# Altium schematic symbol library SolderStation.SchLib: 37 symbols
Pins are listed as number, name and electrical type; pins without a type are passive.

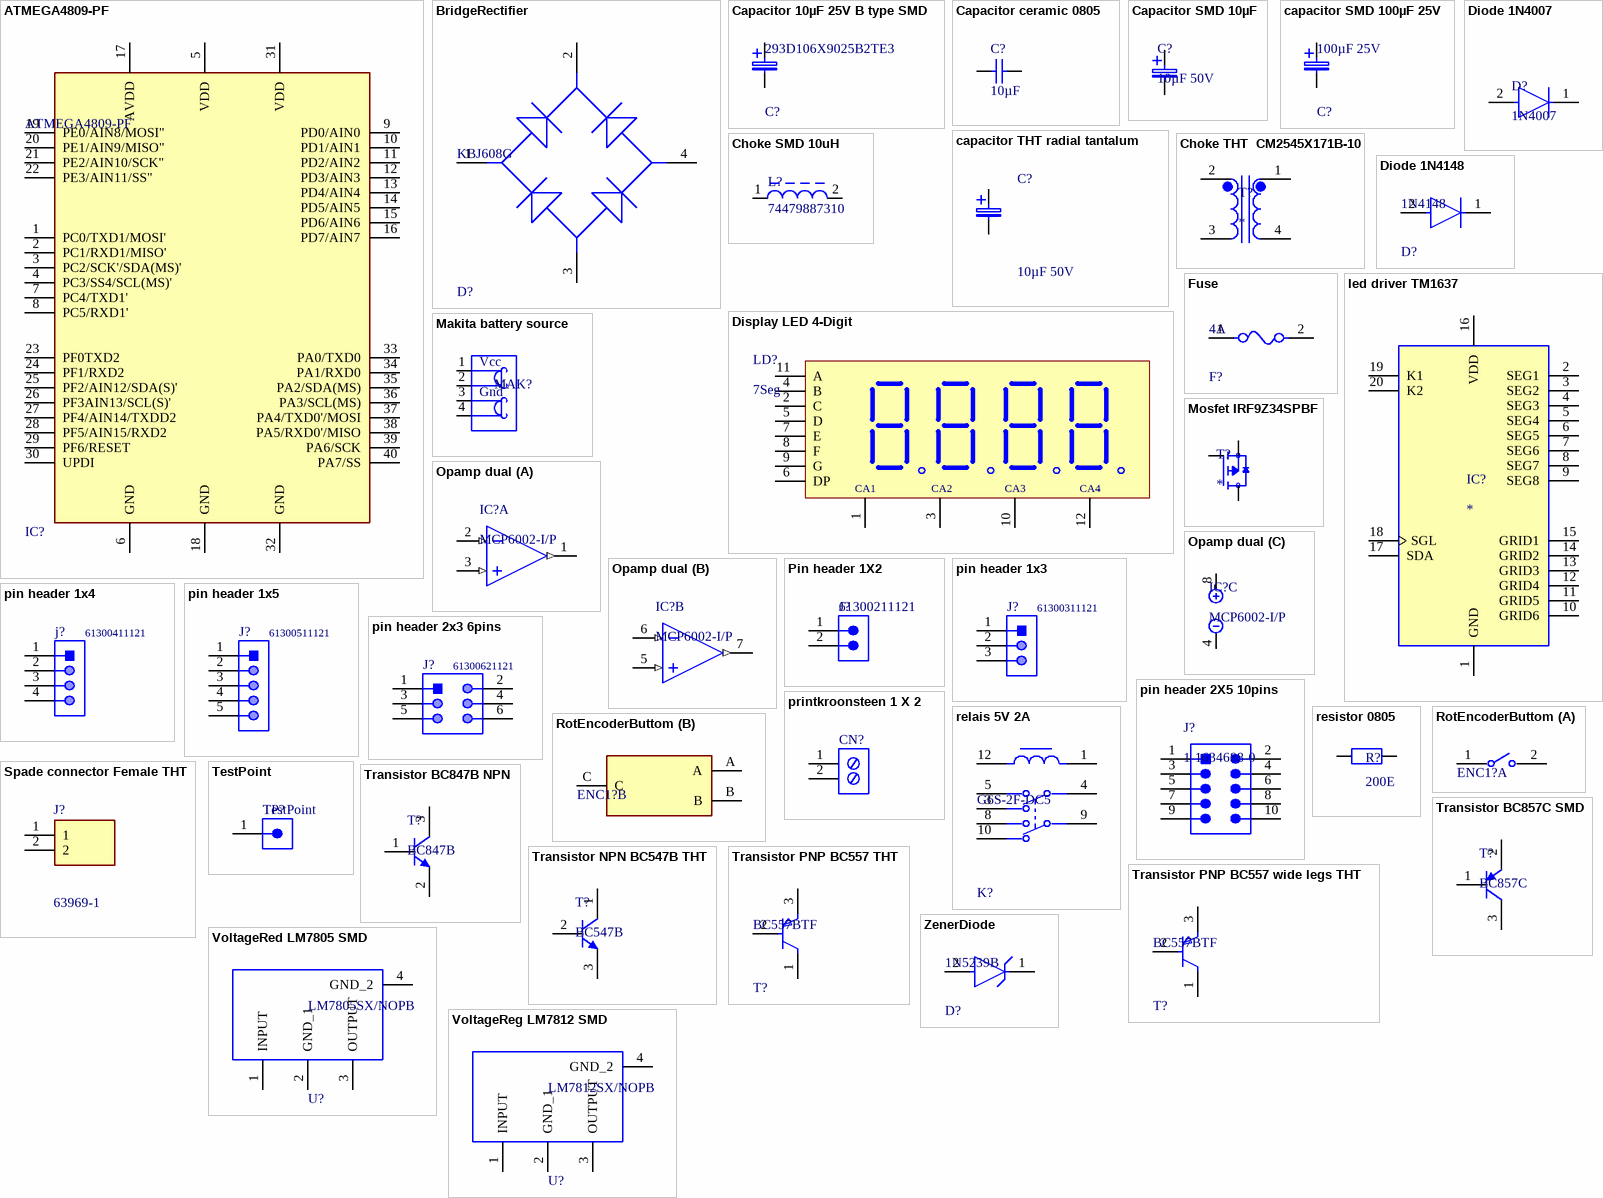
[diagram p0: symbols ATMEGA4809-PF to ZenerDiode]

## ATMEGA4809-PF
designator IC?
IC MCU 8BIT 48KB FLASH 40DIP; RoHS Compliant: Yes
footprint ATMEGA4809-PF (FP TH gebruikmaken van socket voor op PCB)
pins: 1 PC0/TXD1/MOSI', 2 PC1/RXD1/MISO', 3 PC2/SCK'/SDA(MS)', 4 PC3/SS4/SCL(MS)', 5 VDD (power), 6 GND (power), 7 PC4/TXD1', 8 PC5/RXD1', 9 PD0/AIN0, 10 PD1/AIN1, 11 PD2/AIN2, 12 PD3/AIN3, 13 PD4/AIN4, 14 PD5/AIN5, 15 PD6/AIN6, 16 PD7/AIN7, 17 AVDD (power), 18 GND (power), 19 PE0/AIN8/MOSI", 20 PE1/AIN9/MISO", 21 PE2/AIN10/SCK", 22 PE3/AIN11/SS", 23 PF0TXD2, 24 PF1/RXD2, 25 PF2/AIN12/SDA(S)', 26 PF3AIN13/SCL(S)', 27 PF4/AIN14/TXDD2, 28 PF5/AIN15/RXD2, 29 PF6/RESET, 30 UPDI, 31 VDD (power), 32 GND (power), 33 PA0/TXD0, 34 PA1/RXD0, 35 PA2/SDA(MS), 36 PA3/SCL(MS), 37 PA4/TXD0'/MOSI, 38 PA5/RXD0'/MISO, 39 PA6/SCK, 40 PA7/SS

## BridgeRectifier
designator D?, comment KBJ608G
BRIDGE RECT 1PHASE 800V 6A KBJ; Manufacturer: Diodes; Max Junction Temp: +150°C; Max Surge Forward Current: 170A; Peak Reverse Current: 5uA; Standoff Height: 3.3mm; Value: 80pF; Forward Current: 3A; Mouser Description: Bridge Rectifiers 6.0A 800V; Digikey Description: BRIDGE RECT 1PHASE 800V 6A KBJ; Max Repetitive Reverse Voltage: 800V; ComponentLink2Description: Datasheet; Manufacturer Part Number: KBJ608G; Device Class L1: Discrete Semiconductors; Octopart: https://octopart.com/kbj608g-diodes+inc.-13390835; Temperature Range Low: -65°C; Temperature: -65°C to +150°C; Automotive: No; ComponentLink2URL: https://www.diodes.com/assets/Datasheets/ds21207.pdf; RoHS: TRUE; Category: Diode; Lead Free: Yes; Footprint Url: https://www.diodes.com/assets/Package-Files/KBJ.pdf; Reverse Voltage: 800V; Device Class L2: Diodes; Package: KBJ; Device Class L3: Rectifier Diodes; Capacitance: 80pF; Height: 19mm; Temperature Range High: +150°C
footprint FP-KBJ-MFG
pins: 1 +, 2 1 ~, 3 2 ~, 4 -

## Capacitor 10µF 25V B type SMD
designator C?, comment 293D106X9025B2TE3
TANTALUM CAP 10000000 PF 10% CMP-02414-000016-1; Capacitance: 10uF; Dissipation Factor: 6%; ESR (Equivalent Series Resistance): 2.3R; Polarity: Polar; Voltage Rating: 25V; Voltage Rating (DC): 200kV; Leakage Current: 2.5uA; Ripple Current: 190mA; Case Code (Metric): 3528; Width: 1.9mm; Height: 2.1mm; Radiation Hardening: No; Dielectric Material: Tantalum; Weight: 0.002293oz; RoHS Compliant: Yes; Min Operating Temperature: -55°C; Max Operating Temperature: 125°C; Length: 3.5mm; Packaging: Tape and Reel; Lead Free: Lead Free; Series: 293D; Package Quantity: 2000; Case Code (Imperial): 1411; Tolerance: 10%; Termination: SMD/SMT; Depth: 2.8mm; Case/Package: Molded
footprint FP-293DB-MFG
pins: 1, 2

## Capacitor ceramic 0805
designator C?, comment 10µF
Manufacturer: Kemet; Part Number: C0402C104K4RACTU
footprint CAPC2012X88N
pins: 1, 2
1 alternate drawing of the same symbol

## Capacitor SMD 10µF
designator C?, comment 10µF 50V
Tantalum Capacitor, 10 uF, +/- 10%, 50 V, -55 to 125 degC, 2-Pin SMD (7343-43), RoHS, Tape and Reel CMP-2000-05556-1; Manufacturer: Vishay; Capacitance: 10000000pF; Product Height (mm): 4mm; Lead Spacing (nom): NotRequiredmm; Product Depth (mm): 4.3mm; Seal: NotRequired; Case Style: Molded; DELETED: Compliant; Voltage: 50VDC; Product Length (mm): 7.3mm; Polarity: Polar; ESR: 0.8ohm; DF: 6%; Rad Hardened: No; DCL: 5uA; Package Description: 2-Pin Surface Mount Device, Body 7.3 x 4.3 mm; Datasheet URL: http://www.vishay.com/docs/40002/293d.pdf; Operating Temp Range: -55Cto125C; Seated Plane Height: NotRequiredmm; Mounting Technology: SurfaceMount; Insulation: NotRequired; Failure Rate: NotRequired; Construction: SMTChip; Packaging: TapeandReel; Mounting Style: SurfaceMount; Tolerance (+ or -): 10%; Product Diameter (mm): NotRequiredmm; Length W/Weld (max): NotRequiredmm; Length W/Weld: NotRequiredmm; Case Code: E; Datasheet Version: 08/2016; Package Reference: 293D-E; Package / Case: 7343-43; Manufacturer URL: http://www.vishay.com/; Wire Form: NotRequired
footprint VISH-293D-E_L (Molded Capacitor, 2-Leads, Body 7.6x4.6mm, IPC High Density)
pins: 1, 2

## capacitor SMD 100µF 25V
designator C?, comment 100µF 25V
CAP TANT 100UF 10% 25V 2917CMP-03017-000022-1495X107K025ATE150; Life (Hours): 2000Hour; ESR (Equivalent Series Resistance): 150mR; Polarity: Polar; Packaging: Cut Tape; Case Code (Imperial): 2917; Mount: Surface Mount; Voltage Rating: 25V; Package Quantity: 500; Max Operating Temperature: 125°C; RoHS Compliant: Yes; REACH SVHC: No SVHC; Width: 0.169inch; Case/Package: Molded; Depth: 4.3mm; Capacitance: 100uF; Length: 7.3mm; Features: General Purpose; Height: 4mm; Case Code (Metric): 7343; Radiation Hardening: No; Tolerance: 10%; Lead Free: Lead Free; Min Operating Temperature: -55°C; Dissipation Factor: 10%; Height - Seated (Max): 0.169inch; Voltage Rating (DC): 25V
footprint FP-T495X107K025ATE150-MFG
pins: 1, 2

## capacitor THT radial tantalum
designator C?, comment 10µF 50V
Tantalum Capacitors - Solid Leaded 50V 10uF 20% ESR=1.6 Ohm TAP106M050BRW; Manufacturer_Name: Kyocera AVX; Geometry.Height: 15.5mm; Mouser Part Number: 581-TAP106M050BRW; Mouser Price/Stock: https://www.mouser.co.uk/ProductDetail/AVX/TAP106M050BRW?qs=GjEaAqXp9rZGx11KfVU76g%3D%3D; Manufacturer_Part_Number: TAP106M050BRW; Datasheet Link: https://www.mouser.be/datasheet/2/40/tap-776819.pdf
footprint TAP106M050BRW
pins: 1, 2

## Choke SMD 10uH
designator L?, comment 74479887310
Power Multilayer Inductor WE-PMI, L = 10.00 µH CMP-0227-00001-1; Inductance: 10.00 ÂµH; ComponentLink2Description: Datasheet; PackageDescription: Chip Inductor, 2-Leads, Body 2.5 x 2.0 mm; PackageReference: SMD-1008; ComponentLink1URL: http://www.we-online.com; ComponentLink2URL: http://www.we-online.de/katalog/media/pdf/74479887310.pdf; ComponentLink1Description: Manufacturer Link; PackageVersion: 2008; DatasheetVersion: ver 3, Aug-2009
footprint SMD-1008 (Chip Inductor, 2-Leads, Body 2.5 x 2.0 mm)
pins: 1, 2

## Choke THT  CM2545X171B-10
designator T?
2 Line Common Mode Choke Through Hole 170 Ohms @ 100 MHz 10A DCR 10mOhm CM2545X171B-10 smoorspoel; MF: Laird; Value: *; Purchase-URL: https://pricing.snapeda.com/search/part/CM2545X171B-10/?ref=eda; Price: None; Package: Vertical-4 Laird; SnapEDA_Link: https://www.snapeda.com/parts/CM2545X171B-10/Laird/view-part/?ref=snap; Availability: In Stock; Check_prices: https://www.snapeda.com/parts/CM2545X171B-10/Laird/view-part/?ref=eda; MP: CM2545X171B-10
footprint XFMR_CM2545X171B-10
pins: 1, 2, 3, 4

## Diode 1N4007
designator D?, comment 1N4007
DIODE 1N4007 1A 1000V; Manufacturer: On Semiconductor; IO(rec) Max (A): 1; IFSM Max (A): 30; Packing: Bulk Bag; Type: Standard Recovery; VRRM Max (V): 1000; ComponentLink3URL: http://www.onsemi.cn/pub_link/Collateral/59-10.PDF; PackageVersion: Rev. U, 02/2005; PackageDescription: 2-Pin, Axial Lead, Diameter 2.35 mm; PackageReference: AXIAL_LEAD-2-59-10; RoHS: TRUE; PartNumber: 1N4007; DatasheetVersion: Rev. 13; ComponentLink3Description: Package Specification; ComponentLink1Description: Manufacturer URL; ComponentLink2URL: http://www.onsemi.com/pub_link/Collateral/1N4001-D.PDF; ComponentLink1URL: http://www.onsemi.com/; ComponentLink2Description: Datasheet; Mounting Technology: Through Hole
footprint DIODE 1N4007 ONSC-AXIAL_LEAD-2-59-10_P (AXIAL, 2-Leads, Diameter 2.35mm)
pins: 1 C, 2 A

## Diode 1N4148
designator D?, comment 1N4148
DIODE GEN PURP 100V 200MA DO35; Forward Voltage: 1V; Max Power Dissipation: 500mW; Max Reverse Current: 5uA; Forward Current: 300mA; Current: 4A; Reverse Recovery Time: 4ns; Element Configuration: Single; Outside Diameter: 1.85mm; Capacitance: 4pF; Polarity: Standard; Max Forward Surge Current (Ifsm): 1A; Reverse Voltage: 100V; Output Current: 200mA; Average Rectified Current: 200mA; Diameter: 1.91mm; Max Repetitive Reverse Voltage (Vrrm): 100V; Current Rating: 200mA; Case/Package: DO-35; Lead Free: Lead Free; Number of Pins: 2; Recovery Time: 4ns; Packaging: Bulk; Contact Plating: Tin; Voltage: 100V; Mount: Through Hole; Max Surge Current: 4A; Package Quantity: 2000; Width: 1.91mm; Max Reverse Voltage (DC): 100V; Length: 4.56mm; Radiation Hardening: No; Power Dissipation: 500mW; Voltage Rating (DC): 100V; Peak Non-Repetitive Surge Current: 4A; REACH SVHC: No SVHC; Height: 4.56mm; Max Operating Temperature: 175°C; Series: -; Weight: 0.01lb; Min Operating Temperature: -65°C
footprint FP-017AG-MFG
pins: 1 C, 2 A

## Display LED 4-Digit
designator LD?, comment 7Seg
4-Digit LED Display TME KW4-801AVB
footprint KW4-801AVB/KW4-801CVB (7_segent display)
pins: 1 CA1, 2 C, 3 13, 4 B, 5 D, 6 DP, 7 E, 8 F, 9 G, 10 14, 11 A, 12 15
text: CA2; CA3; CA4

## Fuse
designator F?, comment 4A
FUSE BRD MNT 4A 125VAC/VDC 2SMDCMP-08605-000003-1; Manufacturer Part Number: 0154004.DR; Manufacturer: Littelfuse; Fuse Blow Speed: Fast; Max Fuse Ac Voltage: 125V; Lead Free: Yes; Device Class L3: unset; Device Class L2: Fuses; Package: 0154; ComponentLink2Description: Datasheet; Temperature Range Low: -55°C; Temperature Range High: +125°C; Device Class L1: Circuit Protection; Height: 3.81mm; Temperature: -55°C to +125°C; Mouser Description: Surface Mount Fuses Fuseblock w/ fuse 4A OMNI BLOK 154; Automotive: No; Digikey Description: FUSE BRD MNT 4A 125VAC/VDC 2SMD; RoHS: TRUE; Category: Fuse; Fuse Current: 4A; Max Fuse Dc Voltage: 125V; ComponentLink2URL: https://www.littelfuse.com/~/media/electronics/datasheets/fuses/littelfuse_fuse_154_154t_154l_154tl_datasheet.pdf.pdf; Octopart: https://octopart.com/0154004.dr-littelfuse-565861
footprint FP-0154-MFG
pins: 1, 2

## led driver TM1637
designator IC?
LED Drive Control Special Circuit; MF: Titan Micro Electronics; MP: TM1637; Package: Package; Availability: Not in stock; SnapEDA_Link: https://www.snapeda.com/parts/TM1637/Titan+Micro+Electronics/view-part/?ref=snap; Check_prices: https://www.snapeda.com/parts/TM1637/Titan+Micro+Electronics/view-part/?ref=eda; Value: *; Price: None
footprint N-20 (DIP, 20-Leads, Row Spacing 7.62mm, Pitch 2.54mm, Body 25.9x6.6mm)
pins: 1 GND (power), 2 SEG1, 3 SEG2, 4 SEG3, 5 SEG4, 6 SEG5, 7 SEG6, 8 SEG7, 9 SEG8, 10 GRID6, 11 GRID5, 12 GRID4, 13 GRID3, 14 GRID2, 15 GRID1, 16 VDD (power), 17 SDA, 18 SGL, 19 K1, 20 K2

## Makita battery source
designator MAK?
complete set-up for bettery makita terminal p/n 644808-8
footprint makita foodprint female spade for PCD (foodprint of 2 spades used for makita terminal)
pins: 1, 2, 3, 4
text: Vcc; Gnd

## Mosfet IRF9Z34SPBF
designator T?
P-Channel 60V 18A _Tc_ 3.7W _Ta_, 88W _Tc_ Surface Mount D2PAK IRF9Z34SPBF; MF: Vishay; SnapEDA_Link: https://www.snapeda.com/parts/IRF9Z34SPBF/Vishay%20Siliconix/view-part/390212/?ref=snap; Price: None; MP: IRF9Z34SPBF; Value: *; Availability: Unavailable; Package: D2PAK Vishay
footprint TO254P1521X483-4N
pins: 1 G, 3 S, 4 D

## Opamp dual
designator IC?, comment MCP6002-I/P
Dual opamp CMP-0187-00119-3; Max Frequency: 1kHz; Operating Supply Current: 100uA; Amplifier Type: GENERAL PURPOSE; Number of Channels: 2; Power Supply Rejection Ratio (PSRR): 86dB; Max Input Voltage: 6V; Bandwidth: 1MHz; Voltage Gain: 112dB; Input Bias Current: 1pA; Slew Rate-Nom: 0.6V/µs; Output Current: 23mA; Input Offset Voltage-Max: 4.5mV; Common Mode Rejection Ratio: 60dB; Min Input Voltage: 1.8V; Operating Supply Voltage: 5.5V; Height: 0.195inch; Number of Circuits: 2; REACH SVHC: No SVHC; Max Supply Voltage: 6V; Supply Current: 100uA; Gain Bandwidth Product: 1MHz; Radiation Hardening: No; Mount: Through Hole; Length: 0.4inch; Number of Pins: 8; Min Operating Temperature: -40°C; Case/Package: PDIP; Number of Amplifiers: 2; RoHS Compliant: Yes; Lead Free: Lead Free; Number of Elements: 2; Technology: CMOS; Width: 0.28inch; Slew Rate: 0.6V/µs; Packaging: Rail/Tube; Output Current per Channel: 23mA; Max Operating Temperature: 85°C; Nominal Supply Current: 100uA; Min Supply Voltage: 1.8V; Input Offset Voltage (Vos): 4.5mV; Unity Gain Bandwidth Product: 1MHz; Package Quantity: 60
footprint PDIP300-P8 (8-Pin Plastic Dual In-Line Package (PDIP))
part A pins: 1 VOUTA (out), 2 VINA- (in), 3 VINA+ (in)
part B pins: 5 VINB+ (in), 6 VINB- (in), 7 VOUTB (out)
part C pins: 4, 8

## Pin header 1X2
designator J?, comment 61300211121
THT Vertical Pin Header WR-PHD, Pitch 2.54 mm, Single Row, 2 pins; NexarPartId: 20081794; Operating Supply Voltage: 250V; Current Rating: 3A; Gender: Male; Number of Contacts: 2; Pitch: 2.54mm; Connector Type: Male Pin; Contact Resistance: 20mΩ; Contact Plating: Gold; Contact Material: Copper; Number of Pins: 2; Min Operating Temperature: -40°C; Packaging: Bulk; Lead Pitch: 2.54mm; Mount: Through Hole; Orientation: Vertical; RoHS: Compliant; REACH SVHC: No SVHC; Height: 8.94mm; Termination: Through Hole; Number of Positions: 2; Contact Mating Length: 5.9944mm; Color: Black; Contact Gender: Male; Number of Rows: 1; Housing Material: PBT; Lead Free: Lead Free; Voltage Rating: 250V; Max Operating Temperature: 125°C
footprint 61300211121 (Pin Header, pitch 2.54 mm, THT, Vertical, single row, 2p)
pins: 1, 2

## pin header 1x3
designator J?, comment 61300311121
THT Vertical Pin Header WR-PHD, Pitch 2.54 mm, Single Row, 3 pins; Manufacturer: Wurth Elektronik; Withstanding Voltage: 500VAC; Working Voltage: 250VAC; Rated Current: 3A; Pitch: 2.54mm; Pin Number: 3; Gender: Male; Contact Resistance: 20mOhm; Package Reference: 61300311121; Manufacturer URL: http://www.we-online.de; Datasheet URL: https://katalog.we-online.de/em/datasheet/6130xx11121.pdf; Operating Temperature: -40to105degC; Part Number: 61300311121; Orientation: Vertical; Packaging: Bag; Row Number: Single; Mounting Technology: THT; Publisher: WurthElektronik
footprint pin header 1x3 (Pin Header, pitch 2.54 mm, THT, Vertical, single row, 3p)
pins: 1, 2, 3

## pin header 1x4
designator j?, comment 61300411121
THT Vertical Pin Header WR-PHD, Pitch 2.54 mm, Single Row, 4 pins; Manufacturer: Wurth Elektronik; Withstanding Voltage: 500VAC; Rated Current: 3A; Working Voltage: 250VAC; Pin Number: 4; Gender: Male; Contact Resistance: 20mOhm; Pitch: 2.54mm; Manufacturer URL: http://www.we-online.de; Operating Temperature: -40to105degC; Packaging: Bag; Mounting Technology: THT; Package Reference: 61300411121; Datasheet URL: https://katalog.we-online.de/em/datasheet/6130xx11121.pdf; Publisher: WurthElektronik; Part Number: 61300411121; Row Number: Single; Orientation: Vertical
footprint pin header 1x4 (Pin Header, pitch 2.54 mm, THT, Vertical, single row, 4p)
pins: 1, 2, 3, 4

## pin header 1x5
designator J?, comment 61300511121
THT Vertical Pin Header WR-PHD, Pitch 2.54 mm, Single Row, 5 pins; Manufacturer: Wurth Elektronik; Pin Number: 5; Contact Resistance: 20mOhm; Working Voltage: 250VAC; Pitch: 2.54mm; Withstanding Voltage: 500VAC; Rated Current: 3A; Gender: Male; Datasheet URL: https://katalog.we-online.de/em/datasheet/6130xx11121.pdf; Orientation: Vertical; Mounting Technology: THT; Row Number: Single; Package Reference: 61300511121; Publisher: WurthElektronik; Part Number: 61300511121; Packaging: Bag; Manufacturer URL: http://www.we-online.de; Operating Temperature: -40to105degC
footprint pin header 1x5 (Pin Header, pitch 2.54 mm, THT, Vertical, single row, 5p)
pins: 1, 2, 3, 4, 5

## pin header 2x3 6pins
designator J?, comment 61300621121
THT Vertical Pin Header WR-PHD, Pitch 2.54 mm, Dual Row, 6 pins; Manufacturer: Wurth Elektronik; Contact Resistance: 20mOhm; Withstanding Voltage: 500VAC; Pin Number: 6; Gender: Male; Pitch: 2.54mm; Working Voltage: 250VAC; Rated Current: 3A; Packaging: Bag; Row Number: Dual; Manufacturer URL: http://www.we-online.de; Part Number: 61300621121; Operating Temperature: -40to105degC; Mounting Technology: THT; Package Reference: 61300621121; Datasheet URL: https://katalog.we-online.de/em/datasheet/6130xx21121.pdf; Orientation: Vertical; Publisher: WurthElektronik
footprint pin header 2x6 (Pin Header, pitch 2.54 mm, THT, Vertical, dual row, 6p)
pins: 1, 2, 3, 4, 5, 6

## pin header 2X5 10pins
designator J?, comment 1-1634688-0
CMP-2000-05854-1 Male Header, Pitch 2.54 mm, 2 x 5 Postion, Height 9.15 mm, Tail Length 3.2 mm, -40 to 105 degC, RoHS, Bulk; Manufacturer: TE Connectivity; No. of Rows: 2; SVHC: ToBeAdvised; Package Version: Rev. C2, 02/2011; No. of Contacts: 10Contacts; Pitch: 2.54mm; No. of Positions: 10; Contact Termination Type: ThroughHole; Package Description: 10-Pin Connector, Body 20.35 x 8.7 mm, Pitch 2.54 mm; Orientation: Straight; Gender: Header; Mounting Technology: ThroughHole; Product Range: -; PartNumber: 1-1634688-0; Datasheet Version: Rev. C2, 02/2011; Contact Material: Brass; Package URL: https://datasheet.ciiva.com/6831/eng-cd-1634688-c2-6831201.pdf; Package Reference: 1-1634688-0; Pitch Spacing: 2.54mm; Contact Plating: GoldPlatedContacts; Manufacturer URL: http://www.te.com/; Datasheet URL: https://datasheet.ciiva.com/6831/eng-cd-1634688-c2-6831201.pdf
footprint TECO-1-1634688-0-10_V (10-Pin Connector, Body 20.35x8.7mm, Pitch 2.54mm)
pins: 1, 2, 3, 4, 5, 6, 7, 8, 9, 10

## printkroonsteen 1 X 2
designator CN?, comment Printkroonsteen 2 POL  (value not drawn)
Printkroonsteen 2 PO L1716020000; Manufacturer_Name: Weidmuller; Datasheet Link: https://catalog.weidmueller.com/catalog/Start.do?ObjectID=1716020000&_ga=2.21797499.1716783809.1613378202-511725545.1613378202; Manufacturer_Part_Number: 1716020000; Mouser Part Number: 470-1716020000; Mouser Price/Stock: https://www.mouser.co.uk/ProductDetail/Weidmuller/1716020000?qs=WJDKaGZ8K%252B7GSEFQgvMjVA%3D%3D
footprint Printkroonsteen 2pin (printkroonsteen 2pin 1716020000)
pins: 1, 2

## relais 5V 2A
designator K?, comment G6S-2F-DC5
RELAY TELECOM DPDT 2A 5V DCCMP-08823-000012-1; Manufacturer: Omron; Coil Resistance: 178Ω; Coil Current: 28.1mA; Standoff Height: 0.35mm; Coil Power: 140mW; Coil Type: Non-Latching; Number Of Contacts: 2; RoHS: TRUE; Device Class L3: Signal Relays; Ambient Temperature Range Low: -40°C; Switching Current: 2A; Device Class L1: Electromechanical; Lead Free: Yes; Category: Relay; Digikey Description: RELAY TELECOM DPDT 2A 5VDC; Height: 9.4mm; Temperature: -40°C to +85°C; Throw Configuration: DPDT; Coil Voltage: 5V; Octopart: https://octopart.com/g6s-2f-dc5-omron-85236; Package: G6S-2F-DC5; Temperature Range High: +85°C; Automotive: No; Current Rating: 2A; Manufacturer Part Number: G6S-2F-DC5; Mouser Description: Electromechanical Relay 5VDC 178Ohm 2A DPDT (14.8x9.2x9.2)mm SMD Signal Relay; Temperature Range Low: -40°C; Device Class L2: Relays; Ambient Temperature Range High: +85°C; ComponentLink2URL: https://omronfs.omron.com/en_US/ecb/products/pdf/en-g6s.pdf; ComponentLink2Description: Datasheet
footprint FP-G6S-2F-DC5-MFG
pins: 1, 3, 4, 5, 8, 9, 10, 12

## resistor 0805
designator R?, comment 200E
Manufacturer: Vishay Dale; Part Number: CRCW08050000Z0EA
footprint RESC2012X50N
pins: 1, 2
1 alternate drawing of the same symbol

## RotEncoderButtom
designator ENC1?, comment PEC11R-4220F-S0012  (value not drawn)
ROTARY ENCODER MECHANICAL 12PPR PEC11R-4220F-S0012; Built in Switch: Yes; Number of Channels: 2; Output Type: Quadrature; Hole Diameter: 7mm; Pulses per Revolution: 12; Termination: PC Pin; Package Quantity: 150; RoHS Compliant: Yes; Mount: Through Hole; Width: 12.5mm; Radiation Hardening: No; Number of Pins: 5; REACH SVHC: No SVHC; Type: Mechanical; Packaging: Bulk; Min Operating Temperature: -30°C; Encoder Type: Mechanical; Height: 13.4mm; Length: 26.5mm; Orientation: Vertical; Max Operating Temperature: 70°C; Series: PEC11R; Detent: Yes
footprint PEC11R_4220F_S0012
part A pins: 1, 2
part B pins: A, B, C

## Spade connector Female THT
designator J?, comment 63969-1
FASTON 205/250 PCB MOUNTED TPBR; Manufacturer_Name: TE Connectivity; Geometry.Height: 12mm; Mouser Part Number: 571-63969-1; Mouser Price/Stock: https://www.mouser.co.uk/ProductDetail/TE-Connectivity-AMP/63969-1?qs=zg2i2nQPgi6Wuw9j7xPRqQ%3D%3D; Manufacturer_Part_Number: 63969-1; Datasheet Link: http://www.te.com/commerce/DocumentDelivery/DDEController?Action=showdoc&DocId=Customer+Drawing%7F63969%7FD%7Fpdf%7FEnglish%7FENG_CD_63969_D.pdf%7F63969-1
footprint 639691 female spade connecter (TE Connectivity teminal female THT PCB)
pins: 1, 2

## TestPoint
designator TP?
NexarPartId: 32855518; Operating Supply Voltage: 250V; Connector Type: Male Pin; Contact Resistance: 20mΩ; Number of Contacts: 1; Gender: Male; Current Rating: 3A; Contact Mating Length: 5.9944mm; Number of Pins: 1; Lead Pitch: 2.54mm; Contact Plating: Gold; RoHS: Compliant; Termination: Solder; Mount: Through Hole; Number of Rows: 1; Orientation: Vertical; Contact Material: Copper; Packaging: Bulk; REACH SVHC: Unknown; Number of Positions: 1; Color: Black
footprint 61300111121 (Pin Header, pitch 2.54 mm, THT, Vertical, single row, 1p)
pins: 1

## Transistor BC847B NPN
designator T?, comment BC847B
NPN Silicon AF Transistor, 45 V VCEO, 100 mA IC, SOT23, Reel, Green CMP-1177-00042-1; Manufacturer: Infineon; VEBO (max): 6Â V; ICBO (max): 15Â nA; VCBO (max): 50Â V; IBM (max): 200Â mA; Green: TRUE; Ptot (max): 330Â mW; fT (typ): 250Â MHz; IC (max): 100Â mA; VCEO (max): 45Â V; PackageDescription: 3-Pin Small Outline Transistor Package, 1.3 x 2.9 mm Body, 0.95 mm Pitch; ComponentLink3URL: http://www.infineon.com/dgdl/SOT23-Package_Overview.pdf?folderId=db3a30431936bc4b0119532290053c66&fileId=db3a30431936bc4b0119533468123c85; PackageVersion: Apr-08; Packing: Reel; ComponentLink3Description: Package Specification; ComponentLink2URL: http://www.infineon.com/dgdl/bc847series_bc848series_bc849series_bc850series.pdf?folderId=db3a304314dca389011541d30fa21656&fileId=db3a304314dca389011541d4630a1657; ComponentLink1URL: http://www.infineon.com/; ComponentLink2Description: Datasheet; Polarity: NPN; Mounting Technology: Surface Mount; PackageReference: SOT23; ICM (max): 200Â mA; ComponentLink1Description: Manufacturer URL; PartNumber: BC847B
footprint INF-SOT23_L (SOT23, 3-Leads, Body 2.9x1.3 mm, Pitch 0.95 mm, IPC High Density)
pins: 1 B, 2 E, 3 C

## Transistor BC857C SMD
designator T?, comment BC857C
PNP Silicon AF Transistor, 45 V VCEO, 100 mA IC, SOT23, Reel, Green CMP-1177-00039-1; Manufacturer: Infineon; VCBO (max): 50Â V; fT (typ): 250Â MHz; ICBO (max): 15Â nA; IC (max): 100Â mA; Green: TRUE; IBM (max): 200Â mA; VEBO (max): 5Â V; VCEO (max): 45Â V; Ptot (max): 330Â mW; PackageDescription: 3-Pin Small Outline Transistor Package, 1.3 x 2.9 mm Body, 0.95 mm Pitch; ComponentLink2Description: Datasheet; PackageReference: SOT23; ComponentLink3Description: Package Specification; ComponentLink1URL: http://www.infineon.com/; ComponentLink1Description: Manufacturer URL; Mounting Technology: Surface Mount; PackageVersion: Apr-08; ComponentLink3URL: http://www.infineon.com/dgdl/SOT23-Package_Overview.pdf?folderId=db3a30431936bc4b0119532290053c66&fileId=db3a30431936bc4b0119533468123c85; ComponentLink2URL: http://www.infineon.com/dgdl/bc857series_bc858series_bc859series_bc860series.pdf?folderId=db3a304314dca389011541d30fa21656&fileId=db3a304314dca389011541da0e3a1661; Polarity: PNP; ICM (max): 200Â mA; PartNumber: BC857C; Packing: Reel
footprint INF-SOT23_L (SOT23, 3-Leads, Body 2.9x1.3 mm, Pitch 0.95 mm, IPC High Density)
pins: 1 B, 2 E, 3 C

## Transistor NPN BC547B THT
designator T?, comment BC547B
Amplifier Transistor, NPN Silicon, 3-Pin TO-92, Bulk Box CMP-1048-01467-1; Manufacturer: On Semiconductor; IC Continuous (A): 0.1; fT Min (MHz): 150; DatasheetVersion: Rev. 7; ComponentLink1URL: http://www.onsemi.com/; Polarity: NPN; RoHS: FALSE; ComponentLink1Description: Manufacturer URL; Packing: Bulk Box; PackageDescription: 3-Pin Transistor Outline, Body 4.825 x 3.685 mm, Pitch 1.27 mm; ComponentLink3URL: http://www.onsemi.cn/pub_link/Collateral/2N6426-D.PDF; ComponentLink2Description: Datasheet; PackageVersion: Rev. AM; PackageReference: TO-92-3-29-11_AM_SL; ComponentLink3Description: Package Specification; Mounting Technology: Through Hole; PartNumber: BC547B; ComponentLink2URL: http://www.onsemi.com/pub_link/Collateral/BC546-D.PDF
footprint ONSC-TO-92-3-29-11 (TO, 3-Leads, Body Dia 4.7mm, Pitch 1.27mm)
pins: 1 C, 2 B, 3 E

## Transistor PNP BC557 THT
designator T?, comment BC557BTF
BC557BTF Small Signal Bipolar Transistor, 0.1A I(C), 45V V(BR)CEO, 1-Element, PNP, Silicon, TO-92 CMP-00278-84408945-1; Manufacturer Lifecycle Status: ACTIVE; Max Power Dissipation: 500mW; Frequency: 150MHz; hFE Min: 110; Number of Elements: 1; Current Rating: -100mA; Collector Emitter Saturation Voltage: -250mV; Max Collector Current: 100mA; Emitter Base Voltage (VEBO): -5V; Voltage Rating (DC): -45V; Element Configuration: Single; Max Frequency: 10MHz; Collector Base Voltage (VCBO): -50V; Collector Emitter Voltage (VCEO): 45V; Contact Plating: Tin; Min Operating Temperature: -65°C; RoHS: Compliant; Max Operating Temperature: 150°C; Weight: 240mg; Power Dissipation: 500mW; Lifecycle Status: Production; Case/Package: TO-92; Collector Emitter Breakdown Voltage: 45V; Length: 5.2mm; Schedule B: 8541210080, 8541210080|8541210080|8541210080|8541210080|8541210080; Lead Free: Lead Free; Polarity: PNP; REACH SVHC: No SVHC; Mount: Through Hole; NexarPartId: 84408945; Max Breakdown Voltage: 45V; Transition Frequency: 150MHz; Height: 5.33mm; Number of Pins: 3; Gain Bandwidth Product: 150MHz; Width: 4.19mm
footprint ONSC-TO-92-3-29-11 (TO, 3-Leads, Body Dia 4.7mm, Pitch 1.27mm)
pins: 1 C, 2 B, 3 E

## Transistor PNP BC557 wide legs THT
designator T?, comment BC557BTF
BC557BTF Small Signal Bipolar Transistor, 0.1A I(C), 45V V(BR)CEO, 1-Element, PNP, Silicon, TO-92 CMP-00278-84408945-1; Manufacturer Lifecycle Status: ACTIVE; Max Power Dissipation: 500mW; Frequency: 150MHz; hFE Min: 110; Number of Elements: 1; Current Rating: -100mA; Collector Emitter Saturation Voltage: -250mV; Max Collector Current: 100mA; Emitter Base Voltage (VEBO): -5V; Voltage Rating (DC): -45V; Element Configuration: Single; Max Frequency: 10MHz; Collector Base Voltage (VCBO): -50V; Collector Emitter Voltage (VCEO): 45V; Contact Plating: Tin; Min Operating Temperature: -65°C; RoHS: Compliant; Max Operating Temperature: 150°C; Weight: 240mg; Power Dissipation: 500mW; Lifecycle Status: Production; Case/Package: TO-92; Collector Emitter Breakdown Voltage: 45V; Length: 5.2mm; Schedule B: 8541210080, 8541210080|8541210080|8541210080|8541210080|8541210080; Lead Free: Lead Free; Polarity: PNP; REACH SVHC: No SVHC; Mount: Through Hole; NexarPartId: 84408945; Max Breakdown Voltage: 45V; Transition Frequency: 150MHz; Height: 5.33mm; Number of Pins: 3; Gain Bandwidth Product: 150MHz; Width: 4.19mm
footprint FP-135AR-MFG
pins: 1 C, 2 B, 3 E

## VoltageRed LM7805 SMD
designator U?, comment LM7805SX/NOPB
IC REG LIN 5V 1.5A DDPAK/TO263-3 CMP-2000-07590-2; Manufacturer: Texas Instruments; Standoff Height: 0mm; Number Of Outputs: 1; Nominal Supply Current: 8mA; Output Type: Fixed; Accuracy Percentage: 3%; Dropout Voltage: 2V; Min Supply Voltage: 7.5V; Max Junction Temp: +150°C; Max Supply Voltage: 30V; Device Class L1: Integrated Circuits (ICs); Mouser Description: 1.5-A, Wide VIN Fixed Voltage Regulators 3-DDPAK/TO-263 0 to 0; Device Class L3: Voltage Regulators - Linear; Height: 4.79mm; Temperature Range High: +125°C; Manufacturer Part Number: LM7805SX/NOPB; Octopart: https://octopart.com/lm7805sx%2Fnopb-texas+instruments-74629994; Automotive: No; Output Voltage: 5V; Lead Free: Yes; Digikey Description: IC REG LIN 5V 1.5A DDPAK/TO263-3; Package: KTT0003B; Device Class L2: Power Management ICs; ComponentLink2URL: http://www.ti.com/lit/ds/symlink/lm7800.pdf; Category: IC; Temperature Range Low: 0°C; Ambient Temperature Range High: +125°C; Output Current: 1.5A; Ambient Temperature Range Low: 0°C; RoHS: TRUE; Temperature: 0°C to +125°C; ComponentLink2Description: Datasheet
footprint FP-KTT0003B-MFG
pins: 1 INPUT, 2 GND_1, 3 OUTPUT, 4 GND_2 (power)

## VoltageReg LM7812 SMD
designator U?, comment LM7812SX/NOPB
IC REG LIN 12V 1.5A DDPAK/TO263 CMP-04917-000346-1; Quiescent Current: 8mA; Dropout Voltage: 2V; Min Operating Temperature: 0°C; RoHS Compliant: Yes; Lead Free: Contains Lead; Case/Package: TO-263; Max Operating Temperature: 125°C
footprint FP-KTT0003B-MFG
pins: 1 INPUT, 2 GND_1, 3 OUTPUT, 4 GND_2 (power)

## ZenerDiode
designator D?, comment 1N5239B
Series 500 mW 5.1 V 200 mA Through Hole Zener Diode - DO-35; Manufacturer Lifecycle Status: ACTIVE; NexarPartId: 13696926; Max Junction Temperature (Tj): 200°C; Reverse Voltage: 7V; Max Power Dissipation: 500mW; Voltage Tolerance: 5%; Zener Current: 20mA; ESD Protection: No; Forward Voltage: 1.2V; Breakdown Voltage: 9.1V; Element Configuration: Single; Peak Reverse Current: 3µA; Impedance: 10Ω; RoHS: Compliant; Mount: Through Hole; Length: 6.35m; Contact Plating: Tin; Weight: 80g; Height: 1.91mm; Number of Pins: 2; Lead Free: Lead Free; Lifecycle Status: Production; Width: 6.35m; Packaging: Bulk; REACH SVHC: No SVHC; Tolerance: 5%; Max Operating Temperature: 200°C; Voltage Rating (DC): 9.1V; Power Dissipation: 500mW; Min Operating Temperature: -65°C; Power Rating: 500mW; Zener Voltage: 9.1V; Schedule B: 8541100050, 8541100050|8541100050|8541100050|8541100050|8541100050; Case/Package: Axial; Test Current: 20mA; Working Voltage: 9.1V; Radiation Hardening: No; Max Reverse Leakage Current: 3µA
footprint Zenerdiode TH (zenerdiode TH 500mW)
pins: 1 C, 2 A